# EAGLE library part К161ПП1А (library КР1534,К161,К120)
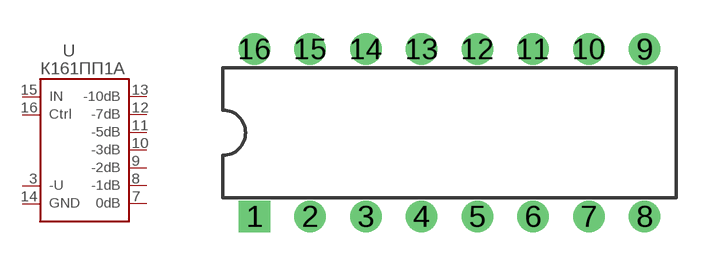
[diagram p3: symbol with the pads of 238.16-1; footprint 238.16-1]

Designator prefix -

## К161ПП1А  [238.16-1]
3  -VCC  pwr
7  0DB  out
8  -1DB  out
9  -2DB  out
10  -3DB  out
11  -5DB  out
12  -7DB  out
13  -10DB  out
14  GND  pwr
15  IN  in
16  CTRL  in

## Footprint 238.16-1 (pad centres in mm)
drill 0.9 square: 1 -8.75,-3.75
drill 0.9: 2 -6.25,-3.75; 3 -3.75,-3.75; 4 -1.25,-3.75; 5 1.25,-3.75; 6 3.75,-3.75; 7 6.25,-3.75; 8 8.75,-3.75; 9 8.75,3.75; 10 6.25,3.75; 11 3.75,3.75; 12 1.25,3.75; 13 -1.25,3.75; 14 -3.75,3.75; 15 -6.25,3.75; 16 -8.75,3.75